# EAGLE library part SN74LVC1G97 (library ds_ic_logic)
SN74LVC1G97 Configurable Multiple-Function Gate
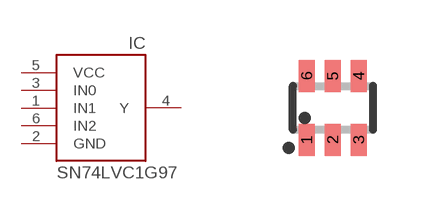
[diagram p18: symbol with the pads of SOT363_PHILIPS; footprint SOT363_PHILIPS]

Designator prefix IC

## SN74LVC1G97  [SOT363_PHILIPS]
1  IN1  in
2  GND  pwr
3  IN0  in
4  Y  out
5  VCC  pwr
6  IN2  in

## Footprint SOT363_PHILIPS (pad centres in mm)
Small Outline Transistor; 6 leads Philips Semiconductors, SOT363.pdf
smd 0.4 x 0.8: 1 -0.65,-0.8; 2 0,-0.8; 3 0.65,-0.8; 4 0.65,0.8; 5 0,0.8; 6 -0.65,0.8